# EAGLE library part SI9986 (library si9986)
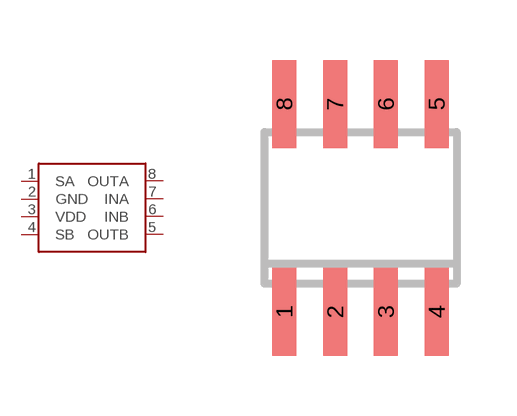
[diagram p0: symbol with the pads of SO-08; footprint SO-08]

Designator prefix -

## SI9986SO8  [SO-08]
1  SA  pwr
2  GND  pwr
3  VDD  pwr
4  SB  pwr
5  OUTB  out
6  INB  in
7  INA  in
8  OUTA  out

## Footprint SO-08 (pad centres in mm)
Small Outline Narrow Plastic Gull Wing 150-mil body, package type SN
smd 0.6 x 2.2: 1 -1.905,-2.6; 2 -0.635,-2.6; 3 0.635,-2.6; 4 1.905,-2.6; 5 1.905,2.6; 6 0.635,2.6; 7 -0.635,2.6; 8 -1.905,2.6